# Altium schematic symbol library Fan_header.SchLib: 1 symbol
Pins are listed as number, name and electrical type; pins without a type are passive.

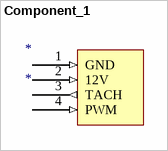
[diagram p0: symbol Component_1]

## Component_1
designator *
footprint Fan Header (4 Pin Fan Header)
pins: 1 GND (in), 2 12V (in), 3 TACH (out), 4 PWM (in)